# Altium footprint library PcbLib_Template.PcbLib: 7 footprints
Each footprint in its own frame and in the unit in brackets; x right, y up, seen from the top. Pads: shape width x height; smd on the part's side, far side on the other; paste and mask are expansions set on the pad; w line width, h text height; cw(c..) or ccw(c..) is an arc to the next point about the centre after c.
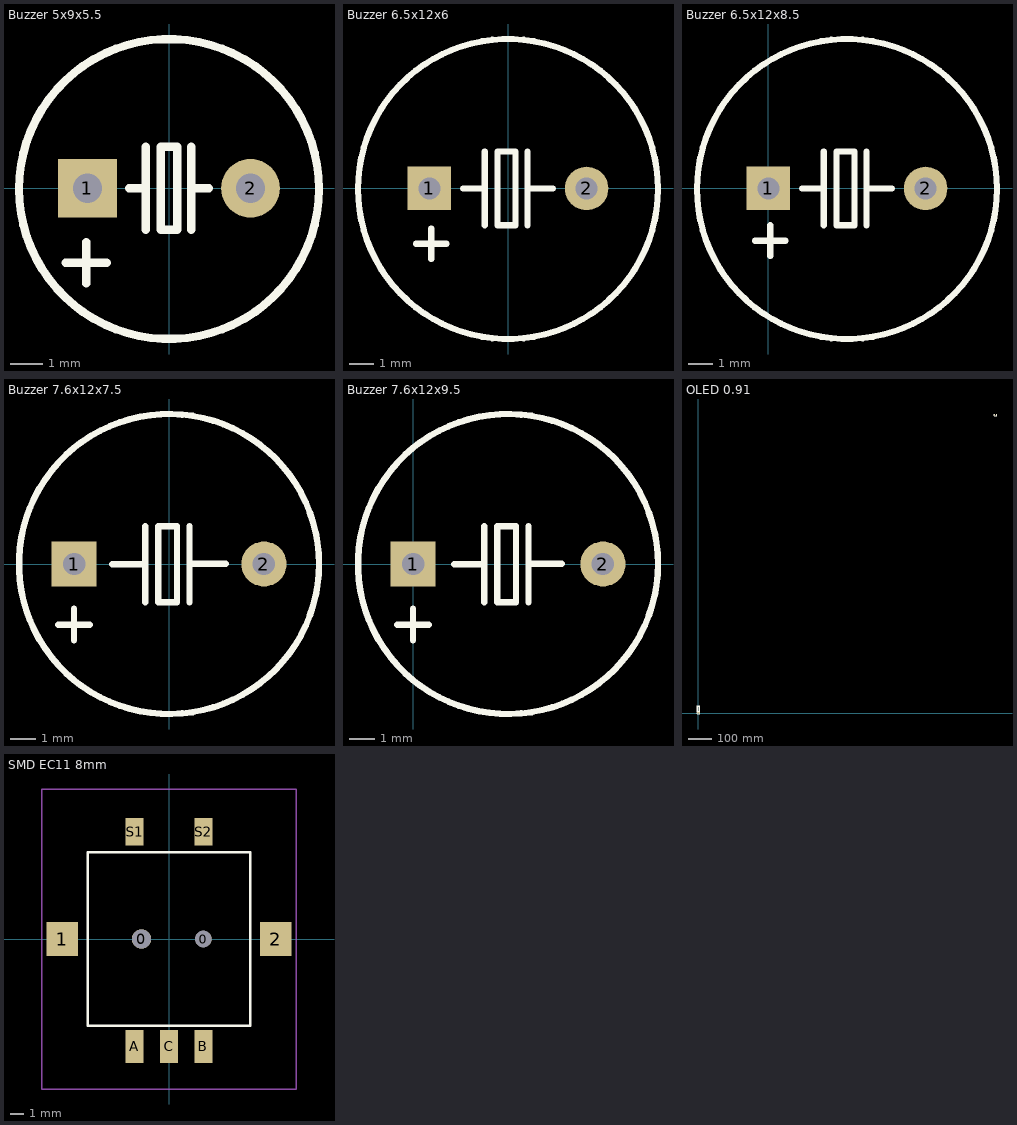
[diagram p0: the footprints below, top view; thin cyan lines are the x and y axes]

## Buzzer 5x9x5.5 [mm]
pads (2):
  rect 1.8x1.8 hole 0.9: 1(-2.5,0)
  round 1.8 hole 0.9: 2(2.5,0)
Top Overlay:
  circle w0.254: c0,-0.023 r4.6
  lines w0.254: -3.175,-2.286 -1.905,-2.286 ; -2.54,-2.921 -2.54,-1.651 ; -1.23,0 -0.709,0 ; -0.709,-1.27 -0.709,1.27 ; 0.685,-1.27 0.685,1.27 ; 0.709,0 1.23,0 ; -0.254,-1.27 -0.254,1.27 0.254,1.27 0.254,-1.27 -0.254,-1.27
3D body "BEEP 5x9x5.5.STEP": height 5.45, standoff -3.55, extent -4.5,-4.5 4.5,4.5

## Buzzer 6.5x12x6 [mm]
pads (2):
  rect 1.8x1.8 hole 0.9: 1(-3.25,0)
  round 1.8 hole 0.9: 2(3.25,0)
Top Overlay:
  circle w0.254: c0,-0.023 r6.2
  lines w0.254: -3.81,-2.286 -2.54,-2.286 ; -3.175,-2.921 -3.175,-1.651 ; -1.853,0 -0.963,0 ; -0.963,-1.524 -0.963,1.524 ; 0.812,-1.524 0.812,1.524 ; 0.963,0 1.853,0 ; -0.438,-1.524 0.312,-1.524 0.312,1.524 -0.438,1.524 -0.438,-1.524
3D body "BEEP 6.5x12x6.STEP": height 6.05, standoff -3.25, extent -6,-6 6,6

## Buzzer 6.5x12x8.5 [mm]
pads (2):
  rect 1.8x1.8 hole 0.9: 1(0,0)
  round 1.8 hole 0.9: 2(6.5,0)
Top Overlay:
  circle w0.254: c3.25,-0.023 r6.2
  lines w0.254: -0.56,-2.159 0.71,-2.159 ; 0.075,-2.794 0.075,-1.524 ; 1.397,0 2.287,0 ; 2.287,-1.524 2.287,1.524 ; 4.062,-1.524 4.062,1.524 ; 4.213,0 5.103,0 ; 2.812,-1.524 3.562,-1.524 3.562,1.524 2.812,1.524 2.812,-1.524
3D body "BEEP 6.5x12x8.5.STEP": height 8.55, standoff -3.25, extent -2.75,-6 9.25,6

## Buzzer 7.6x12x7.5 [mm]
pads (2):
  rect 1.8x1.8 hole 0.9: 1(-3.8,0)
  round 1.8 hole 0.9: 2(3.8,0)
Top Overlay:
  circle w0.254: c0,0 r6.001
  lines w0.254: -4.434,-2.424 -3.164,-2.424 ; -3.799,-3.059 -3.799,-1.789 ; -2.276,-0.011 -0.952,-0.011 ; -0.952,-1.535 -0.952,1.513 ; 0.823,-1.535 0.823,1.513 ; 0.952,0.011 2.276,0.011 ; -0.427,-1.535 0.323,-1.535 0.323,1.513 -0.427,1.513 -0.427,-1.535
3D body "BEEP 7.6x12x7.5.STEP": height 7.55, standoff -3.25, extent -6,-6 6,6

## Buzzer 7.6x12x9.5 [mm]
pads (2):
  rect 1.8x1.8 hole 0.9: 1(0,0)
  round 1.8 hole 0.9: 2(7.6,0)
Top Overlay:
  circle w0.254: c3.8,0 r6.001
  lines w0.254: -0.634,-2.424 0.636,-2.424 ; 0.001,-3.059 0.001,-1.789 ; 1.651,-0.011 2.848,-0.011 ; 2.848,-1.535 2.848,1.513 ; 4.623,-1.535 4.623,1.513 ; 4.752,0.011 5.949,0.011 ; 3.373,-1.535 3.373,1.513 4.123,1.513 4.123,-1.535 3.373,-1.535
3D body "BEEP 7.6x12x9.5.STEP": height 9.55, standoff -3.25, extent -2.19,-6 9.81,6

## OLED 0.91 [mm]
pads (32):
  rect 1.8x2.2 smd: 0(-4.9,0) 0(4.9,0) 0(1259.425,1268.349) 0(1269.225,1268.349)
  rect 0.3x1.3 smd: 1(-3.25,2.497) 1(1261.075,1270.846) 2(-2.75,2.497) 2(1261.575,1270.846) 3(-2.25,2.497) 3(1262.075,1270.846) 4(-1.75,2.497) 4(1262.575,1270.846) 5(-1.25,2.497) 5(1263.075,1270.846) 6(-0.75,2.497) 6(1263.575,1270.846) 7(-0.25,2.497) 7(1264.075,1270.846) 8(0.25,2.497) 8(1264.575,1270.846) 9(0.75,2.497) 9(1265.075,1270.846) 10(1.25,2.497) 10(1265.575,1270.846) 11(1.75,2.497) 11(1266.075,1270.846) 12(2.25,2.497) 12(1266.575,1270.846) 13(2.75,2.497) 13(1267.075,1270.846) 14(3.25,2.497) 14(1267.575,1270.846)
Top Overlay:
  circle w0.5: c1261.075,1269.349 r0.18
  circle w0.5: c-3.25,1 r0.18
  lines w0.2: -5.675,-1.651 -5.675,-3.302 5.675,-3.302 5.675,-1.651 ; -5.675,1.651 -5.675,2.159 -4.064,2.159 ; 4.064,2.159 5.675,2.159 5.675,1.651 ; 1258.65,1266.698 1258.65,1265.047 1270,1265.047 1270,1266.698 ; 1258.65,1270 1258.65,1270.508 1260.261,1270.508 ; 1268.389,1270.508 1270,1270.508 1270,1270 ; -5.75,4.343 5.75,4.343 5.75,31.343 -5.75,31.343 -5.75,4.343 ; -2.12,7.29 3.48,7.29 3.48,29.29 -2.12,29.29 -2.12,7.29
3D body "FPC0.5-14P.STEP": height 2, standoff -0.01, extent -5.6,-3.226 5.6,2.774
3D body "0.91in OLED - Folded - Without Glass.stp": height 3.01, standoff 0.72, extent -5.753,-3.608 5.753,31.294
3D body "FPC0.5-14P.STEP": height 2, standoff -0.01, extent 1258.725,1265.123 1269.925,1271.123

## SMD EC11 8mm [mm]
pads (9):
  round 1.4 hole 1.4 unplated: 0(-2,0)
  round 1.2 hole 1.2 unplated: 0(2.5,0)
  rect 2.3x2.5 smd: 1(-7.75,0) 2(7.75,0)
  rect 1.3x2.4 smd: A(-2.5,-7.8) B(2.5,-7.8) C(0,-7.8)
  rect 1.3x2 smd: S1(-2.5,7.8) S2(2.5,7.8)
Top Overlay:
  lines w0.2: -5.9,-6.3 -5.9,6.3 5.9,6.3 5.9,-6.3 -5.9,-6.3
Mechanical 20:
  lines w0.1: -9.25,-10.9 -9.25,10.9 9.25,10.9 9.25,-10.9 -9.25,-10.9
3D body "EC11SMD（8mm）.step": height 7.35, standoff -0.87, extent -7,-8 7,8